# Altium integrated library lite-on.IntLib: 3 symbols
Pins are listed as number, name and electrical type; pins without a type are passive.

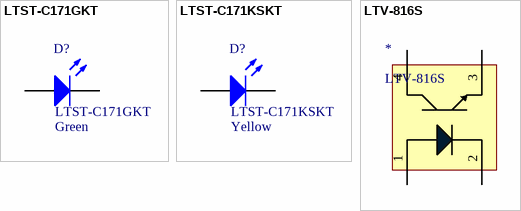
[diagram p0: symbols LTST-C171GKT to LTV-816S]

## LTST-C171GKT
designator D?  Color: Green
LED
footprint 0805
pins: 1 A, 2 K

## LTST-C171KSKT
designator D?  Color: Yellow
LED
footprint 0805
pins: 1 A, 2 K

## LTV-816S
designator *
Optoisolator
footprint LTV-816S
pins: 1, 2, 3, 4